# Altium footprint library IC.PcbLib: 99 footprints (part 5 of 7)
Each footprint in its own frame and in the unit in brackets; x right, y up, seen from the top. Pads: shape width x height; smd on the part's side, far side on the other; paste and mask are expansions set on the pad; w line width, h text height; cw(c..) or ccw(c..) is an arc to the next point about the centre after c.
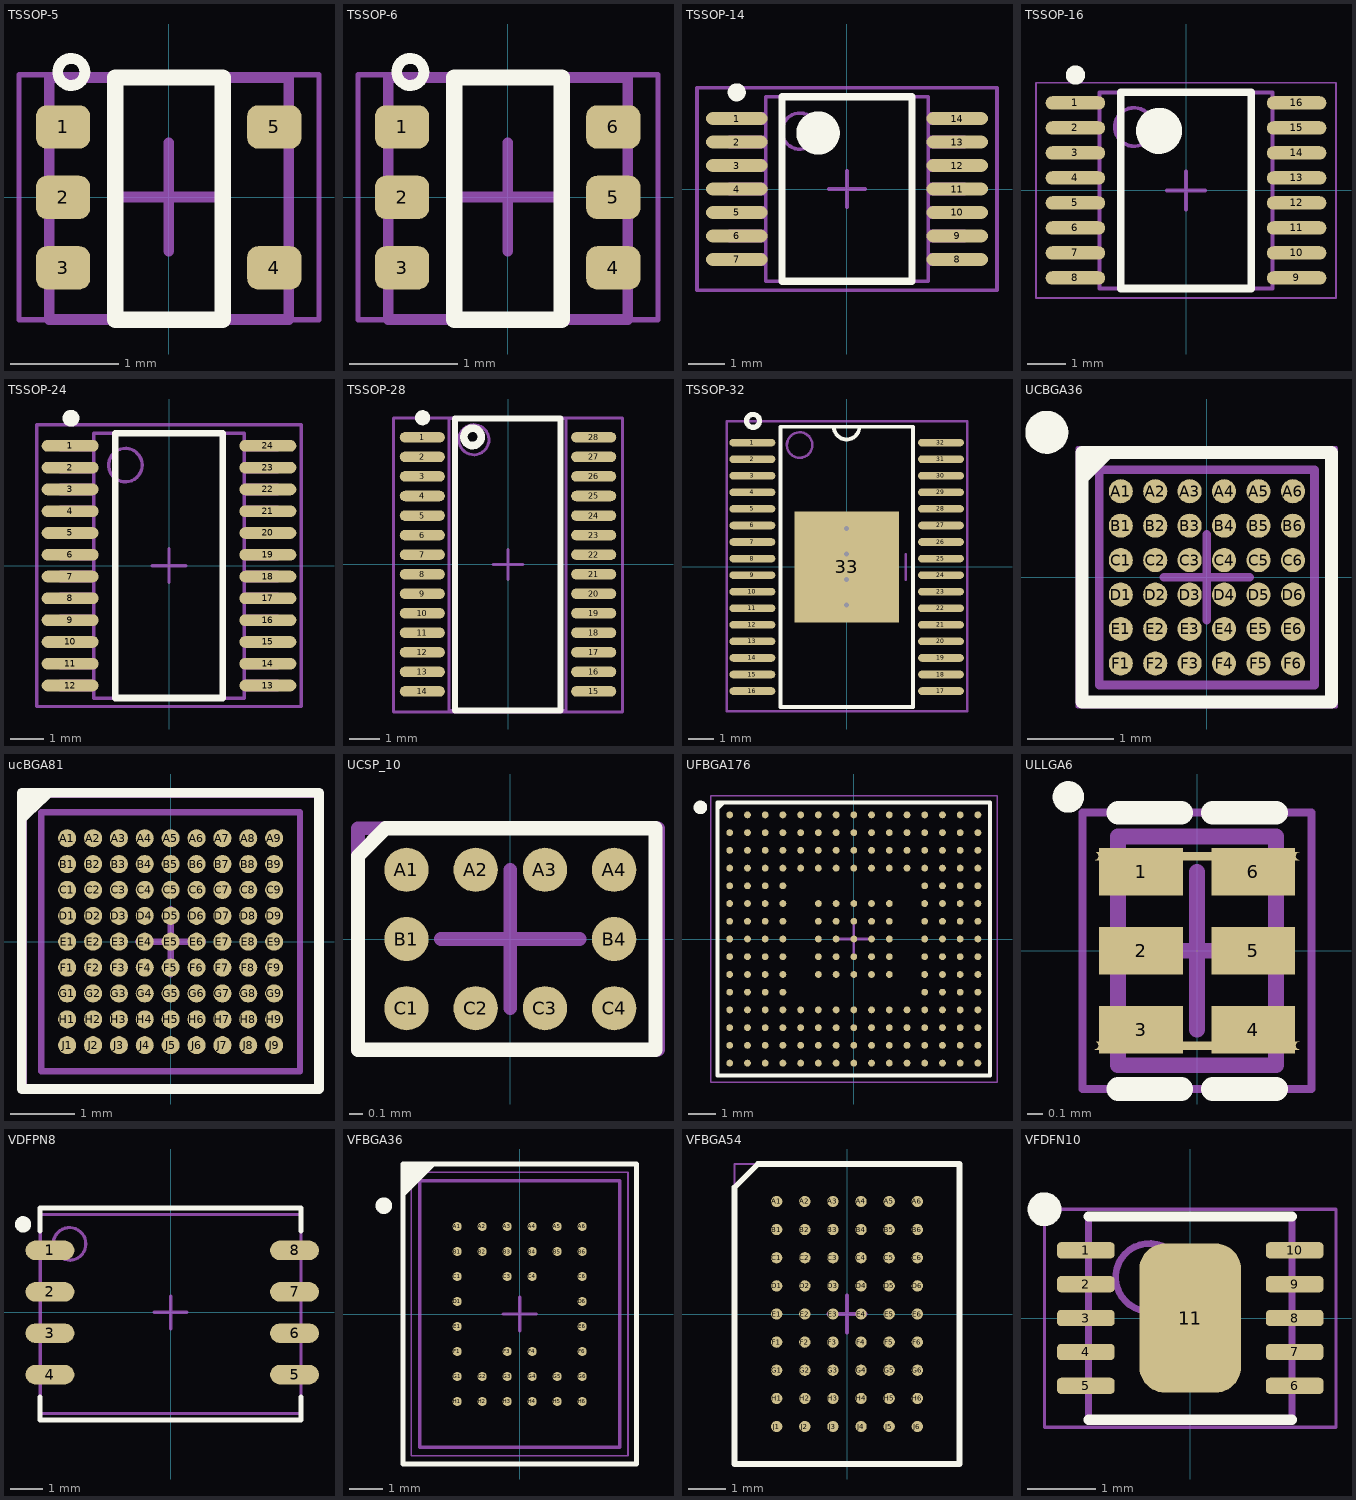
[diagram p4: the footprints below, top view; thin cyan lines are the x and y axes]

## TSSOP-5 [mm]
height 1
pads (5):
  rrect50% 0.5x0.4 smd mask+0.05: 1(-0.975,0.65) 2(-0.975,0) 3(-0.975,-0.65) 4(0.975,-0.65) 5(0.975,0.65)
Top Overlay:
  circle w0.1: c-0.899,1.158 r0.125
  lines w0.15: -0.492,-1.128 0.498,-1.128 0.498,1.107 -0.492,1.107 -0.492,-1.128
Mechanical 13:
  lines w0.1: -1.102,-1.128 1.108,-1.128 1.108,1.107 -1.102,1.107 -1.102,-1.128
Mechanical 15:
  lines w0.05: -1.381,-1.128 1.387,-1.128 1.387,1.133 -1.381,1.133 -1.381,-1.128
  lines w0.1: -0.5,0.005 0.5,0.005 ; 0,-0.495 0,0.505
3D body: height 1.1, standoff -0.01, extent -1.135,-1.135 1.115,1.115

## TSSOP-6 [mm]
height 1
pads (6):
  rrect50% 0.5x0.4 smd mask+0.08: 1(-0.975,0.65) 2(-0.975,0) 3(-0.975,-0.65) 4(0.975,-0.65) 5(0.975,0) 6(0.975,0.65)
Top Overlay:
  circle w0.1: c-0.899,1.158 r0.125
  lines w0.15: -0.492,-1.128 0.498,-1.128 0.498,1.107 -0.492,1.107 -0.492,-1.128
Mechanical 13:
  lines w0.1: -1.102,-1.128 1.108,-1.128 1.108,1.107 -1.102,1.107 -1.102,-1.128
Mechanical 15:
  lines w0.05: -1.381,-1.128 1.387,-1.128 1.387,1.133 -1.381,1.133 -1.381,-1.128
  lines w0.1: -0.5,0.005 0.5,0.005 ; 0,-0.495 0,0.505
3D body: height 1.1, standoff -0.01, extent -1.135,-1.135 1.115,1.115

## TSSOP-14 [mm] "TSOP, 14-Leads, Body 5,1x4,5mm (max), Pitch 0,65mm, IPC Medium Density"
height 1.2
pads (14):
  oval 1.7x0.35 smd: 1(-3.05,1.95) 2(-3.05,1.3) 3(-3.05,0.65) 4(-3.05,0) 5(-3.05,-0.65) 6(-3.05,-1.3) 7(-3.05,-1.95) 8(3.05,-1.95) 9(3.05,-1.3) 10(3.05,-0.65) 11(3.05,0) 12(3.05,0.65) 13(3.05,1.3) 14(3.05,1.95)
Top Overlay:
  circle w0.6: c-0.8,1.55 r0.3
  circle w0.25: c-3.05,2.675 r0.125
  lines w0.2: -1.8,-2.55 1.8,-2.55 1.8,2.55 -1.8,2.55 -1.8,-2.55
Mechanical 13:
  circle w0.1: c-1.3,1.6 r0.5
  lines w0.1: -2.25,-2.075 -3.25,-2.075 -3.25,-1.825 -2.25,-1.825 ; -2.25,-1.425 -3.25,-1.425 -3.25,-1.175 -2.25,-1.175 ; -2.25,-0.775 -3.25,-0.775 -3.25,-0.525 -2.25,-0.525 ; -2.25,-0.125 -3.25,-0.125 -3.25,0.125 -2.25,0.125 ; -2.25,0.525 -3.25,0.525 -3.25,0.775 -2.25,0.775 ; -2.25,1.175 -3.25,1.175 -3.25,1.425 -2.25,1.425 ; -2.25,1.825 -3.25,1.825 -3.25,2.075 -2.25,2.075 ; 2.25,-2.075 3.25,-2.075 3.25,-1.825 2.25,-1.825 ; 2.25,-1.425 3.25,-1.425 3.25,-1.175 2.25,-1.175 ; 2.25,-0.775 3.25,-0.775 3.25,-0.525 2.25,-0.525 ; 2.25,-0.125 3.25,-0.125 3.25,0.125 2.25,0.125 ; 2.25,0.525 3.25,0.525 3.25,0.775 2.25,0.775 ; 2.25,1.175 3.25,1.175 3.25,1.425 2.25,1.425 ; 2.25,1.825 3.25,1.825 3.25,2.075 2.25,2.075 ; -2.25,-2.55 2.25,-2.55 2.25,2.55 -2.25,2.55 -2.25,-2.55
  text ".Designator" at 0.05,-1.6 h0.5
Mechanical 15:
  lines w0.1: -0.5,0 0.5,0 ; 0,-0.5 0,0.5 ; -4.15,-2.8 4.15,-2.8 4.15,2.8 -4.15,2.8 -4.15,-2.8
3D body: height 1.2, standoff 0.1, extent -2.25,-2.55 2.25,2.55

## TSSOP-16 [mm] "TSOP, 16-Leads, Body 5,00x4,40mm, Pitch 0,65mm, IPC Medium Density"
height 1.1
pads (16):
  oval 1.55x0.35 smd: 1(-2.875,2.275) 2(-2.875,1.625) 3(-2.875,0.975) 4(-2.875,0.325) 5(-2.875,-0.325) 6(-2.875,-0.975) 7(-2.875,-1.625) 8(-2.875,-2.275) 9(2.875,-2.275) 10(2.875,-1.625) 11(2.875,-0.975) 12(2.875,-0.325) 13(2.875,0.325) 14(2.875,0.975) 15(2.875,1.625) 16(2.875,2.275)
Top Overlay:
  circle w0.6: c-0.7,1.55 r0.3
  circle w0.25: c-2.875,3 r0.125
  lines w0.2: -1.7,-2.55 1.7,-2.55 1.7,2.55 -1.7,2.55 -1.7,-2.55
Mechanical 13:
  circle w0.1: c-1.35,1.65 r0.5
  lines w0.1: -2.25,-2.55 2.25,-2.55 2.25,2.55 -2.25,2.55 -2.25,-2.55
  text ".Designator" at -1.914,2.964 h0.5
Mechanical 15:
  lines w0.05: -3.9,-2.8 3.9,-2.8 3.9,2.8 -3.9,2.8 -3.9,-2.8
  lines w0.1: -0.5,0 0.5,0 ; 0,-0.5 0,0.5
3D body: height 1.1, standoff 0.05, extent -2.25,-2.55 2.25,2.55

## TSSOP-24 [mm] "TSOP, 24-Leads, Body 7,9x4,5mm (max), Pitch 0,65mm, IPC Medium Density"
height 1.1
pads (24):
  oval 1.7x0.35 smd: 1(-2.95,3.575) 2(-2.95,2.925) 3(-2.95,2.275) 4(-2.95,1.625) 5(-2.95,0.975) 6(-2.95,0.325) 7(-2.95,-0.325) 8(-2.95,-0.975) 9(-2.95,-1.625) 10(-2.95,-2.275) 11(-2.95,-2.925) 12(-2.95,-3.575) 13(2.95,-3.575) 14(2.95,-2.925) 15(2.95,-2.275) 16(2.95,-1.625) 17(2.95,-0.975) 18(2.95,-0.325) 19(2.95,0.325) 20(2.95,0.975) 21(2.95,1.625) 22(2.95,2.275) 23(2.95,2.925) 24(2.95,3.575)
Top Overlay:
  circle w0.25: c-2.925,4.4 r0.125
  lines w0.2: -1.6,-3.95 1.6,-3.95 1.6,3.95 -1.6,3.95 -1.6,-3.95
Mechanical 13:
  circle w0.1: c-1.3,3 r0.5
  lines w0.1: -2.25,-3.7 -3.25,-3.7 -3.25,-3.45 -2.25,-3.45 ; -2.25,-3.05 -3.25,-3.05 -3.25,-2.8 -2.25,-2.8 ; -2.25,-2.4 -3.25,-2.4 -3.25,-2.15 -2.25,-2.15 ; -2.25,-1.75 -3.25,-1.75 -3.25,-1.5 -2.25,-1.5 ; -2.25,-1.1 -3.25,-1.1 -3.25,-0.85 -2.25,-0.85 ; -2.25,-0.45 -3.25,-0.45 -3.25,-0.2 -2.25,-0.2 ; -2.25,0.2 -3.25,0.2 -3.25,0.45 -2.25,0.45 ; -2.25,0.85 -3.25,0.85 -3.25,1.1 -2.25,1.1 ; -2.25,1.5 -3.25,1.5 -3.25,1.75 -2.25,1.75 ; -2.25,2.15 -3.25,2.15 -3.25,2.4 -2.25,2.4 ; -2.25,2.8 -3.25,2.8 -3.25,3.05 -2.25,3.05 ; -2.25,3.45 -3.25,3.45 -3.25,3.7 -2.25,3.7 ; 2.25,-3.7 3.25,-3.7 3.25,-3.45 2.25,-3.45 ; 2.25,-3.05 3.25,-3.05 3.25,-2.8 2.25,-2.8 ; 2.25,-2.4 3.25,-2.4 3.25,-2.15 2.25,-2.15 ; 2.25,-1.75 3.25,-1.75 3.25,-1.5 2.25,-1.5 ; 2.25,-1.1 3.25,-1.1 3.25,-0.85 2.25,-0.85 ; 2.25,-0.45 3.25,-0.45 3.25,-0.2 2.25,-0.2 ; 2.25,0.2 3.25,0.2 3.25,0.45 2.25,0.45 ; 2.25,0.85 3.25,0.85 3.25,1.1 2.25,1.1 ; 2.25,1.5 3.25,1.5 3.25,1.75 2.25,1.75 ; 2.25,2.15 3.25,2.15 3.25,2.4 2.25,2.4 ; 2.25,2.8 3.25,2.8 3.25,3.05 2.25,3.05 ; 2.25,3.45 3.25,3.45 3.25,3.7 2.25,3.7 ; -2.25,-3.95 2.25,-3.95 2.25,3.95 -2.25,3.95 -2.25,-3.95
  text ".Designator" at 0.3,-1.6 h0.5
Mechanical 15:
  lines w0.1: -0.5,0 0.5,0 ; 0,-0.5 0,0.5 ; -3.95,-4.2 3.95,-4.2 3.95,4.2 -3.95,4.2 -3.95,-4.2
3D body: height 1.1, standoff 0.2, extent -2.25,-3.95 2.25,3.95

## TSSOP-28 [mm]
height 1.1
pads (28):
  oval 1.5x0.35 smd: 1(-2.85,4.225) 2(-2.85,3.575) 3(-2.85,2.925) 4(-2.85,2.275) 5(-2.85,1.625) 6(-2.85,0.975) 7(-2.85,0.325) 8(-2.85,-0.325) 9(-2.85,-0.975) 10(-2.85,-1.625) 11(-2.85,-2.275) 12(-2.85,-2.925) 13(-2.85,-3.575) 14(-2.85,-4.225) 15(2.85,-4.225) 16(2.85,-3.575) 17(2.85,-2.925) 18(2.85,-2.275) 19(2.85,-1.625) 20(2.85,-0.975) 21(2.85,-0.325) 22(2.85,0.325) 23(2.85,0.975) 24(2.85,1.625) 25(2.85,2.275) 26(2.85,2.925) 27(2.85,3.575) 28(2.85,4.225)
Top Overlay:
  circle w0.25: c-2.843,4.877 r0.125
  circle w0.254: c-1.179,4.242 r0.29
  lines w0.2: -1.758,-4.851 1.753,-4.851 1.753,4.851 -1.758,4.851 -1.758,-4.851
Mechanical 13:
  lines w0.1: -1.961,-4.851 1.93,-4.851 1.93,4.851 -1.961,4.851 -1.961,-4.851 ; -0.635,4.166 ccw(c-1.135,4.145) -0.635,4.166
  text ".Designator" at -0.61,-1.626 h0.5
Mechanical 15:
  lines w0.1: -0.5,0 0.5,0 ; 0,-0.5 0,0.5 ; -3.81,-4.902 3.81,-4.902 3.81,4.877 -3.81,4.877 -3.81,-4.902
3D body: height 2, standoff 0.1, extent -1.961,-4.851 1.93,4.851

## TSSOP-32 [mm]
pads (33):
  oval 1.8x0.3 smd: 1(-3.7,4.875) 2(-3.7,4.225) 3(-3.7,3.575) 4(-3.7,2.925) 5(-3.7,2.275) 6(-3.7,1.625) 7(-3.7,0.975) 8(-3.7,0.325) 9(-3.7,-0.325) 10(-3.7,-0.975) 11(-3.7,-1.625) 12(-3.7,-2.275) 13(-3.7,-2.925) 14(-3.7,-3.575) 15(-3.7,-4.225) 16(-3.7,-4.875) 17(3.7,-4.875) 18(3.7,-4.225) 19(3.7,-3.575) 20(3.7,-2.925) 21(3.7,-2.275) 22(3.7,-1.625) 23(3.7,-0.975) 24(3.7,-0.325) 25(3.7,0.325) 26(3.7,0.975) 27(3.7,1.625) 28(3.7,2.275) 29(3.7,2.925) 30(3.7,3.575) 31(3.7,4.225) 32(3.7,4.875)
  rect 4.11x4.36 smd paste-100 mask-100: 33(0,0)
via 0,-1.5 diameter 0.4 hole 0.2
via 0,-0.5 diameter 0.4 hole 0.2
via 0,0.5 diameter 0.4 hole 0.2
via 0,1.5 diameter 0.4 hole 0.2
Top Overlay:
  circle w0.203: c-3.675,5.73 r0.254
  lines w0.152: -0.5,5.5 ccw(c0,5.5) 0.499,5.5 ; -2.6,-5.5 2.6,-5.5 2.6,5.5 -2.6,5.5 -2.6,-5.5
Top Paste:
  rectangle: 0.254,-2.184 2.057,2.184
  rectangle: -2.057,-2.184 -0.254,2.184
Top Solder:
  rectangle: 0.254,-2.184 2.057,2.184
  rectangle: -2.057,-2.184 -0.254,2.184
Mechanical 13:
  lines w0.1: -2.6,-5.5 -2.6,5.5 2.6,5.5 2.6,-5.5 -2.6,-5.5 ; -1.346,4.801 ccw(c-1.846,4.78) -1.346,4.801
  text ".Designator" at -2.397,5.936 h0.5
  text ".Designator" at 1.702,-1.626 h0.5
  text ".Designator" at -0.61,-1.626 h0.5
Mechanical 15:
  lines w0.1: -0.5,0 0.5,0 ; 0,-0.5 0,0.5 ; 2.311,-0.5 2.311,0.5 ; -4.699,-5.664 -4.699,5.715 4.724,5.715 4.724,-5.664 -4.699,-5.664
3D body: height 2, standoff 0.1, extent -2.6,-5.5 2.6,5.5

## UCBGA36 [mm]
height 1
pads (36):
  round 0.279 smd mask-0.013: A1(-1,1) A2(-0.6,1) A3(-0.2,1) A4(0.2,1) A5(0.6,1) A6(1,1) B1(-1,0.6) B2(-0.6,0.6) B3(-0.2,0.6) B4(0.2,0.6) B5(0.6,0.6) B6(1,0.6) C1(-1,0.2) C2(-0.6,0.2) C3(-0.2,0.2) C4(0.2,0.2) C5(0.6,0.2) C6(1,0.2) D1(-1,-0.2) D2(-0.6,-0.2) D3(-0.2,-0.2) D4(0.2,-0.2) D5(0.6,-0.2) D6(1,-0.2) E1(-1,-0.6) E2(-0.6,-0.6) E3(-0.2,-0.6) E4(0.2,-0.6) E5(0.6,-0.6) E6(1,-0.6) F1(-1,-1) F2(-0.6,-1) F3(-0.2,-1) F4(0.2,-1) F5(0.6,-1) F6(1,-1)
Top Overlay:
  circle w0.25: c-1.86,1.685 r0.125
  region: -1,1.5 -1.5,1 -1.5,1.5
  lines w0.15: -1.45,-1.45 -1.45,1.45 1.45,1.45 1.45,-1.45 -1.45,-1.45
Mechanical 13:
  lines w0.1: -1.25,-1.25 -1.25,1.25 1.25,1.25 1.25,-1.25 -1.25,-1.25
Mechanical 15:
  lines w0.05: -1.5,-1.5 -1.5,1.5 1.5,1.5 1.5,-1.5 -1.5,-1.5
  lines w0.1: -0.5,0 0.5,0 ; 0,-0.5 0,0.5
3D body: height 1, standoff 0.1, extent -1.25,-1.25 1.25,1.25

## ucBGA81 [mil]
height 39.37
pads (81):
  round 11 smd mask-0.5: A1(-62.99,62.99) A2(-47.24,62.99) A3(-31.5,62.99) A4(-15.75,62.99) A5(0,62.99) A6(15.75,62.99) A7(31.5,62.99) A8(47.24,62.99) A9(62.99,62.99) B1(-62.99,47.24) B2(-47.24,47.24) B3(-31.5,47.24) B4(-15.75,47.24) B5(0,47.24) B6(15.75,47.24) B7(31.5,47.24) B8(47.24,47.24) B9(62.99,47.24) C1(-62.99,31.5) C2(-47.24,31.5) C3(-31.5,31.5) C4(-15.75,31.5) C5(0,31.5) C6(15.75,31.5) C7(31.5,31.5) C8(47.24,31.5) C9(62.99,31.5) D1(-62.99,15.75) D2(-47.24,15.75) D3(-31.5,15.75) D4(-15.75,15.75) D5(0,15.75) D6(15.75,15.75) D7(31.5,15.75) D8(47.24,15.75) D9(62.99,15.75) E1(-62.99,0) E2(-47.24,0) E3(-31.5,0) E4(-15.75,0) E5(0,0) E6(15.75,0) E7(31.5,0) E8(47.24,0) E9(62.99,0) F1(-62.99,-15.75) F2(-47.24,-15.75) F3(-31.5,-15.75) F4(-15.75,-15.75) F5(0,-15.75) F6(15.75,-15.75) F7(31.5,-15.75) F8(47.24,-15.75) F9(62.99,-15.75) G1(-62.99,-31.5) G2(-47.24,-31.5) G3(-31.5,-31.5) G4(-15.75,-31.5) G5(0,-31.5) G6(15.75,-31.5) G7(31.5,-31.5) G8(47.24,-31.5) G9(62.99,-31.5) H1(-62.99,-47.24) H2(-47.24,-47.24) H3(-31.5,-47.24) H4(-15.75,-47.24) H5(0,-47.24) H6(15.75,-47.24) H7(31.5,-47.24) H8(47.24,-47.24) H9(62.99,-47.24) J1(-62.99,-62.99) J2(-47.24,-62.99) J3(-31.5,-62.99) J4(-15.75,-62.99) J5(0,-62.99) J6(15.75,-62.99) J7(31.5,-62.99) J8(47.24,-62.99) J9(62.99,-62.99)
Top Overlay:
  region: -68.11,92.52 -91.54,70.28 -92.32,92.91
  lines w5.91: -90.67,-89.64 -90.67,90.63 90.31,90.63 90.31,-89.64 -90.67,-89.64
Mechanical 13:
  lines w3.94: -78.74,-78.74 78.74,-78.74 78.74,78.74 -78.74,78.74 -78.74,-78.74
Mechanical 15:
  lines w1.97: -88.58,-88.58 88.58,-88.58 88.58,88.58 -88.58,88.58 -88.58,-88.58
  lines w3.94: -19.68,0 19.69,0 ; 0,-19.69 0,19.68
3D body: height 39.37, standoff 3.94, extent -78.74,-78.74 78.74,78.74

## UCSP_10 [mm]
pads (10):
  round 0.32 smd mask+0.07: A1(-0.75,0.5) A2(-0.25,0.5) A3(0.25,0.5) A4(0.75,0.5) B1(-0.75,0) B4(0.75,0) C1(-0.75,-0.5) C2(-0.25,-0.5) C3(0.25,-0.5) C4(0.75,-0.5)
Top Overlay:
  lines w0.102: -1.1,-0.8 -1.1,0.6 -0.9,0.8 1.05,0.8 1.05,-0.8 -1.1,-0.8
Mechanical 13:
  lines w0.1: -1.1,-0.8 -1.1,0.6 -0.9,0.8 1.067,0.8 1.067,-0.8 -1.1,-0.8
  text ".Designator" at -1.956,1.118 h0.5
Mechanical 15:
  lines w0.1: -0.5,0 0.5,0 ; 0,-0.5 0,0.5 ; -1.1,-0.8 1.067,-0.8 1.067,0.8 -1.1,0.8 -1.1,-0.8
3D body: height 2, standoff 0.1, extent -1.1,-0.8 1.067,0.8

## UFBGA176 [mm] "UFBGA176+25 - ultra thin fine pitch ball grid array 10 x 10 x 0.6 mm,  0.65 mm pitch package outline"
height 0.6
pads (201):
  round 0.25 smd mask+0.11: A1(-4.55,4.55) A2(-3.9,4.55) A3(-3.25,4.55) A4(-2.6,4.55) A5(-1.95,4.55) A6(-1.3,4.55) A7(-0.65,4.55) A8(0,4.55) A9(0.65,4.55) A10(1.3,4.55) A11(1.95,4.55) A12(2.6,4.55) A13(3.25,4.55) A14(3.9,4.55) A15(4.55,4.55) B1(-4.55,3.9) B2(-3.9,3.9) B3(-3.25,3.9) B4(-2.6,3.9) B5(-1.95,3.9) B6(-1.3,3.9) B7(-0.65,3.9) B8(0,3.9) B9(0.65,3.9) B10(1.3,3.9) B11(1.95,3.9) B12(2.6,3.9) B13(3.25,3.9) B14(3.9,3.9) B15(4.55,3.9) C1(-4.55,3.25) C2(-3.9,3.25) C3(-3.25,3.25) C4(-2.6,3.25) C5(-1.95,3.25) C6(-1.3,3.25) C7(-0.65,3.25) C8(0,3.25) C9(0.65,3.25) C10(1.3,3.25) C11(1.95,3.25) C12(2.6,3.25) C13(3.25,3.25) C14(3.9,3.25) C15(4.55,3.25) D1(-4.55,2.6) D2(-3.9,2.6) D3(-3.25,2.6) D4(-2.6,2.6) D5(-1.95,2.6) D6(-1.3,2.6) D7(-0.65,2.6) D8(0,2.6) D9(0.65,2.6) D10(1.3,2.6) D11(1.95,2.6) D12(2.6,2.6) D13(3.25,2.6) D14(3.9,2.6) D15(4.55,2.6) E1(-4.55,1.95) E2(-3.9,1.95) E3(-3.25,1.95) E4(-2.6,1.95) E12(2.6,1.95) E13(3.25,1.95) E14(3.9,1.95) E15(4.55,1.95) F1(-4.55,1.3) F2(-3.9,1.3) F3(-3.25,1.3) F4(-2.6,1.3) F6(-1.3,1.3) F7(-0.65,1.3) F8(0,1.3) F9(0.65,1.3) F10(1.3,1.3) F12(2.6,1.3) F13(3.25,1.3) F14(3.9,1.3) F15(4.55,1.3) G1(-4.55,0.65) G2(-3.9,0.65) G3(-3.25,0.65) G4(-2.6,0.65) G6(-1.3,0.65) G7(-0.65,0.65) G8(0,0.65) G9(0.65,0.65) G10(1.3,0.65) G12(2.6,0.65) G13(3.25,0.65) G14(3.9,0.65) G15(4.55,0.65) H1(-4.55,0) H2(-3.9,0) H3(-3.25,0) H4(-2.6,0) H6(-1.3,0) H7(-0.65,0) H8(0,0) H9(0.65,0) H10(1.3,0) H12(2.6,0) H13(3.25,0) H14(3.9,0) H15(4.55,0) J1(-4.55,-0.65) J2(-3.9,-0.65) J3(-3.25,-0.65) J4(-2.6,-0.65) J6(-1.3,-0.65) J7(-0.65,-0.65) J8(0,-0.65) J9(0.65,-0.65) J10(1.3,-0.65) J12(2.6,-0.65) J13(3.25,-0.65) J14(3.9,-0.65) J15(4.55,-0.65) K1(-4.55,-1.3) K2(-3.9,-1.3) K3(-3.25,-1.3) K4(-2.6,-1.3) K6(-1.3,-1.3) K7(-0.65,-1.3) K8(0,-1.3) K9(0.65,-1.3) K10(1.3,-1.3) K12(2.6,-1.3) K13(3.25,-1.3) K14(3.9,-1.3) K15(4.55,-1.3) L1(-4.55,-1.95) L2(-3.9,-1.95) L3(-3.25,-1.95) L4(-2.6,-1.95) L12(2.6,-1.95) L13(3.25,-1.95) L14(3.9,-1.95) L15(4.55,-1.95) M1(-4.55,-2.6) M2(-3.9,-2.6) M3(-3.25,-2.6) M4(-2.6,-2.6) M5(-1.95,-2.6) M6(-1.3,-2.6) M7(-0.65,-2.6) M8(0,-2.6) M9(0.65,-2.6) M10(1.3,-2.6) M11(1.95,-2.6) M12(2.6,-2.6) M13(3.25,-2.6) M14(3.9,-2.6) M15(4.55,-2.6) N1(-4.55,-3.25) N2(-3.9,-3.25) N3(-3.25,-3.25) N4(-2.6,-3.25) N5(-1.95,-3.25) N6(-1.3,-3.25) N7(-0.65,-3.25) N8(0,-3.25) N9(0.65,-3.25) N10(1.3,-3.25) N11(1.95,-3.25) N12(2.6,-3.25) N13(3.25,-3.25) N14(3.9,-3.25) N15(4.55,-3.25) P1(-4.55,-3.9) P2(-3.9,-3.9) P3(-3.25,-3.9) P4(-2.6,-3.9) P5(-1.95,-3.9) P6(-1.3,-3.9) P7(-0.65,-3.9) P8(0,-3.9) P9(0.65,-3.9) P10(1.3,-3.9) P11(1.95,-3.9) P12(2.6,-3.9) P13(3.25,-3.9) P14(3.9,-3.9) P15(4.55,-3.9) R1(-4.55,-4.55) R2(-3.9,-4.55) R3(-3.25,-4.55) R4(-2.6,-4.55) R5(-1.95,-4.55) R6(-1.3,-4.55) R7(-0.65,-4.55) R8(0,-4.55) R9(0.65,-4.55) R10(1.3,-4.55) R11(1.95,-4.55) R12(2.6,-4.55) R13(3.25,-4.55) R14(3.9,-4.55) R15(4.55,-4.55)
Top Overlay:
  circle w0.25: c-5.625,4.825 r0.125
  region: -4.786,5 -5,4.786 -5,5
  lines w0.15: -5,4.786 -4.786,5 ; -5,-5 5,-5 5,5 -5,5 -5,-5
Mechanical 13:
  lines w0.1: -5,-5 5,-5 5,5 -5,5 -5,-5
  text ".Designator" at -4.81,5.402 h0.5
Mechanical 15:
  lines w0.05: -5.25,-5.25 5.25,-5.25 5.25,5.25 -5.25,5.25 -5.25,-5.25
  lines w0.1: -0.5,0 0.5,0 ; 0,-0.5 0,0.5
3D body: height 0.6, standoff 0.05, extent -5,-5 5,5

## ULLGA6 [mm] "ULLGA6 1.45x1.0"
height 0.4
pads (12):
  oval 0.25x0 smd: 1(-0.5,-0.6) 2(0,-0.6) 3(0.5,-0.6) 4(0.5,0.6) 5(0,0.6) 6(-0.5,0.6)
  rect 0.53x0.3 smd: 1(-0.355,0.5) 2(-0.355,0) 3(-0.355,-0.5) 4(0.355,-0.5) 5(0.355,0) 6(0.355,0.5)
Top Overlay:
  circle w0.1: c-0.815,0.975 r0.05
  lines w0.15: -0.5,-0.875 -0.1,-0.875 ; -0.5,0.875 -0.1,0.875 ; 0.1,-0.875 0.5,-0.875 ; 0.1,0.875 0.5,0.875
Mechanical 13:
  lines w0.1: -0.5,-0.725 0.5,-0.725 0.5,0.725 -0.5,0.725 -0.5,-0.725
Mechanical 15:
  lines w0.05: 0.72,-0.875 -0.725,-0.875 -0.725,0.875 0.72,0.875 ; 0.725,-0.875 0.725,0.875
  lines w0.1: -0.5,0 0.5,0 ; 0,-0.5 0,0.5
3D body: height 0.4, standoff 0.05, extent -0.5,-0.725 0.5,0.725

## VDFPN8 [mm] "MLP8"
height 1.55
pads (8):
  oval 1.5x0.6 smd: 1(-3.7,1.9) 2(-3.7,0.63) 3(-3.7,-0.64) 4(-3.7,-1.91) 5(3.8,-1.91) 6(3.8,-0.64) 7(3.8,0.63) 8(3.8,1.9)
Top Overlay:
  circle w0.25: c-4.525,2.7 r0.125
  lines w0.15: -4,-2.6 -4,-3.3 4,-3.3 4,-2.6 ; -4,2.5 -4,3.2 4,3.2 4,2.5
Mechanical 13:
  circle w0.1: c-3.1,2.1 r0.5
  lines w0.1: -4,-3.1 -4,3 4,3 4,-3.1 -4,-3.1
  text ".Designator" at -0.1,1.7 h0.5
Mechanical 15:
  lines w0.05: -4,-3.1 -4,3.023 4,3.023 4,-3.1 -4,-3.1
  lines w0.1: -0.5,0 0.5,0 ; 0,-0.5 0,0.5
3D body: height 1, standoff 0.18, extent -4,-3.1 4,3.023

## VFBGA36 [mm] "36-ball VFBGA (6 x 8 x 1.0 mm) Package Outline"
height 1
pads (36):
  round 0.27 smd: A1(-1.875,2.625) A2(-1.125,2.625) A3(-0.375,2.625) A4(0.375,2.625) A5(1.125,2.625) A6(1.875,2.625) B1(-1.875,1.875) B2(-1.125,1.875) B3(-0.375,1.875) B4(0.375,1.875) B5(1.125,1.875) B6(1.875,1.875) C1(-1.875,1.125) C3(-0.375,1.125) C4(0.375,1.125) C6(1.875,1.125) D1(-1.875,0.375) D6(1.875,0.375) E1(-1.875,-0.375) E6(1.875,-0.375) F1(-1.875,-1.125) F3(-0.375,-1.125) F4(0.375,-1.125) F6(1.875,-1.125) G1(-1.875,-1.875) G2(-1.125,-1.875) G3(-0.375,-1.875) G4(0.375,-1.875) G5(1.125,-1.875) G6(1.875,-1.875) H1(-1.875,-2.625) H2(-1.125,-2.625) H3(-0.375,-2.625) H4(0.375,-2.625) H5(1.125,-2.625) H6(1.875,-2.625)
Top Overlay:
  circle w0.25: c-4.075,3.25 r0.125
  region: -2.5,4.5 -3.5,3.5 -3.5,4.5
  lines w0.15: -3.5,-4.5 -3.5,4.5 3.5,4.5 3.5,-4.5 -3.5,-4.5
Mechanical 13:
  lines w0.1: -3,-4 -3,4 3,4 3,-4 -3,-4
Mechanical 15:
  lines w0.05: -3.25,-4.25 -3.25,4.25 3.25,4.25 3.25,-4.25 -3.25,-4.25
  lines w0.1: -0.5,0 0.5,0 ; 0,-0.5 0,0.5
3D body: height 1, standoff 0.21, extent -3,-4 3,4

## VFBGA54 [mm]
height 1
pads (54):
  round 0.3 smd mask+0.05: A1(-1.875,3) A2(-1.125,3) A3(-0.375,3) A4(0.375,3) A5(1.125,3) A6(1.875,3) B1(-1.875,2.25) B2(-1.125,2.25) B3(-0.375,2.25) B4(0.375,2.25) B5(1.125,2.25) B6(1.875,2.25) C1(-1.875,1.5) C2(-1.125,1.5) C3(-0.375,1.5) C4(0.375,1.5) C5(1.125,1.5) C6(1.875,1.5) D1(-1.875,0.75) D2(-1.125,0.75) D3(-0.375,0.75) D4(0.375,0.75) D5(1.125,0.75) D6(1.875,0.75) E1(-1.875,0) E2(-1.125,0) E3(-0.375,0) E4(0.375,0) E5(1.125,0) E6(1.875,0) F1(-1.875,-0.75) F2(-1.125,-0.75) F3(-0.375,-0.75) F4(0.375,-0.75) F5(1.125,-0.75) F6(1.875,-0.75) G1(-1.875,-1.5) G2(-1.125,-1.5) G3(-0.375,-1.5) G4(0.375,-1.5) G5(1.125,-1.5) G6(1.875,-1.5) H1(-1.875,-2.25) H2(-1.125,-2.25) H3(-0.375,-2.25) H4(0.375,-2.25) H5(1.125,-2.25) H6(1.875,-2.25) J1(-1.875,-3) J2(-1.125,-3) J3(-0.375,-3) J4(0.375,-3) J5(1.125,-3) J6(1.875,-3)
Top Overlay:
  lines w0.15: -3,-4 3,-4 3,4 -2.375,4 -3,3.375 -3,-4
Mechanical 13:
  text ".Designator" at -0.198,2.01 h0.5
Mechanical 15:
  lines w0.05: -3,-4 3,-4 3,4 -3,4 -3,-4
  lines w0.1: -0.5,0 0.5,0 ; 0,-0.5 0,0.5
3D body: height 0.7, standoff 0.1, extent -3,-4 3,4

## VFDFN10 [mm]
height 1
pads (11):
  rrect50% 0.85x0.24 smd mask+0: 1(-1.54,1) 2(-1.54,0.5) 3(-1.54,0) 4(-1.54,-0.5) 5(-1.54,-1) 6(1.54,-1) 7(1.54,-0.5) 8(1.54,0) 9(1.54,0.5) 10(1.54,1)
  rrect50% 1.5x2.2 smd mask+0.03: 11(0,0)
Top Overlay:
  circle w0.25: c-2.15,1.605 r0.125
  lines w0.15: -1.5,-1.5 1.5,-1.5 ; 1.5,1.5 -1.501,1.5 ; -1.501,1.5 -1.501,1.5
Mechanical 13:
  circle w0.1: c-0.6,0.6 r0.5
  lines w0.1: -1.5,-1.5 1.5,-1.5 1.5,1.5 -1.5,1.5 -1.5,-1.5
Mechanical 15:
  lines w0.05: -2.15,-1.61 2.15,-1.61 2.15,1.605 -2.15,1.605 -2.15,-1.61
  lines w0.1: -0.5,0 0.5,0 ; 0,-0.5 0,0.5
3D body: height 0.76, standoff 0, extent -1.501,-1.5 1.501,1.5